# EAGLE library part AMPHENOL_10118192-0001LF (library ringRemote)
Connector Receptacle USB - micro B 2.0 5 Position Surface Mount, Right Angle, Horizontal
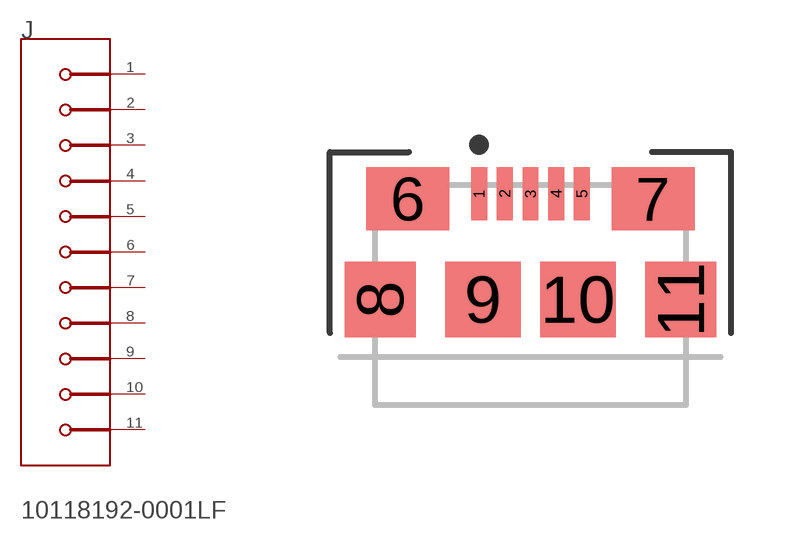
[diagram p3: symbol with the pads of AMPHENOL_10118192-0001LF_0; footprint AMPHENOL_10118192-0001LF_0]

Designator prefix J

## AMPHENOL_10118192-0001LFAMPHENOL_10118192-0001LF_0_0 (APPROVED_ALTERNATE_PART_NUMBER: 609-4613-1-ND; CENTROID_NOT_SPECIFIED: No; DATASHEET: http://portal.fciconnect.com/Comergent//fci/drawing/10118192.pdf; DIGIKEY_DESCRIPTION: CONN USB MICRO B RECPT SMT R/A; DIGIKEY_PART_NUMBER: 609-4613-1-ND; IS_FEMALE: yes; LEAD_FREE: yes; MF: Amphenol; MOUSER_PART_NUMBER: 649-10118192-0001LF; MPN: 10118192-0001LF; PACKAGE: CONN_SMT_7MM86_5MM57_HDMI; PREFIX: J; ROHS: yes; TEMPERATURE_RANGE_HIGH: +80°C; TEMPERATURE_RANGE_LOW: -30°C; VOLTAGE: 100V)  [AMPHENOL_10118192-0001LF_0]
1  1
2  2
3  3
4  4
5  5
6  MNT_1
7  MNT_2
8  MNT_3
9  MNT_4
10  MNT_5
11  MNT_6

## Footprint AMPHENOL_10118192-0001LF_0 (pad centres in mm)
Connector Receptacle USB - micro B 2.0 5 Position Surface Mount, Right Angle, Horizontal
smd 0.4 x 1.35: 1 -1.3,2.56; 2 -0.65,2.56; 3 0,2.56; 4 0.65,2.56; 5 1.3,2.56
smd 2.1 x 1.6: 6 -3.1,2.435; 7 3.1,2.435
smd 1.8 x 1.9: 8 -3.8,-0.115; 11 3.8,-0.115
smd 1.9 x 1.9: 9 -1.2,-0.115; 10 1.2,-0.115